# Altium integrated library Linear Technology Power Management System Supervisor, Monitor and Control.IntLib: 1611 symbols (part 58 of 100)
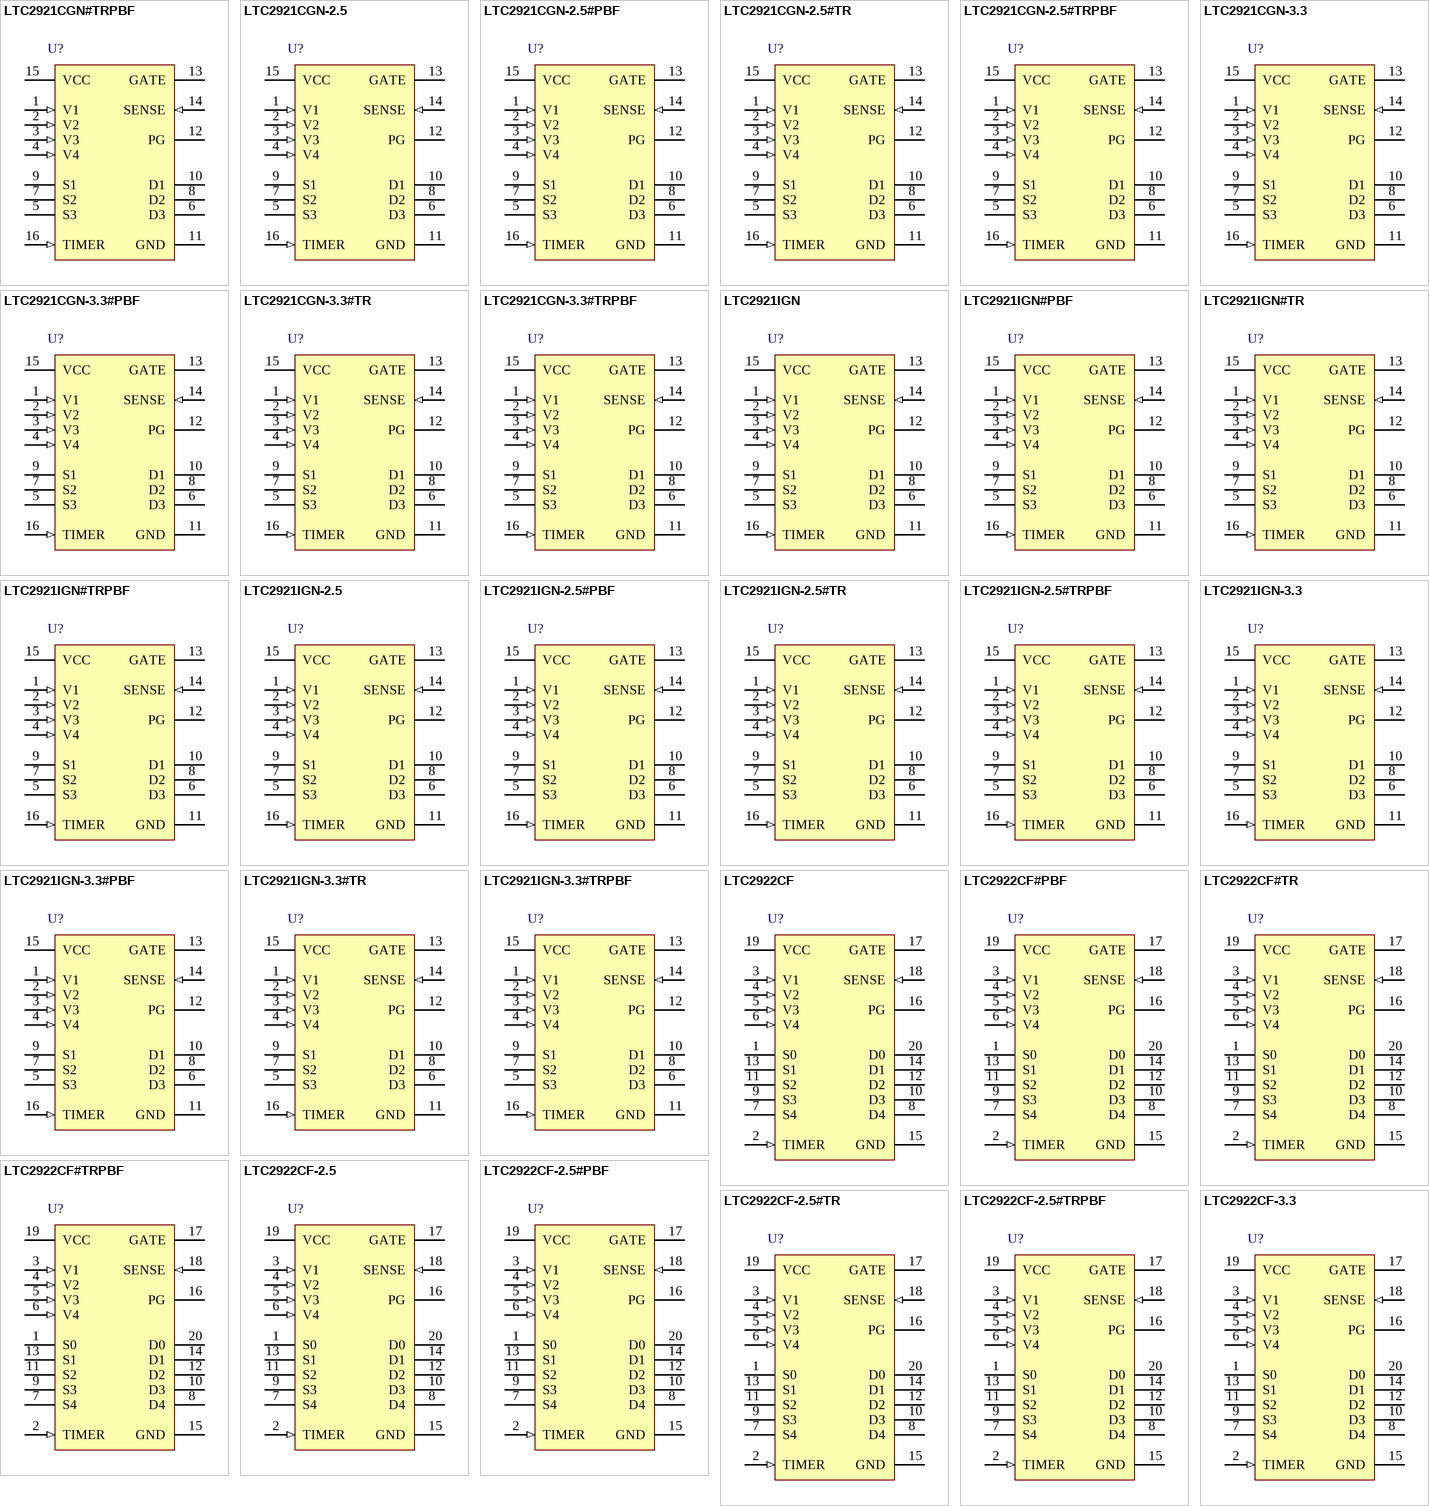
[diagram p102: symbols LTC2921CGN#TRPBF to LTC2922CF-3.3]

## LTC2921CGN#TRPBF
designator U?
Power Supply Tracker with Input Monitor, 16-pin SOP (GN-16), 0 to 70 degC, Pb-Free, Tape and Reel; Manufacturer: Linear Technology; PartNumber: LTC2921CGN#TRPBF; Number of Supplies(#): 5; DatasheetVersion: Rev. A; PackageVersion: Rev. B, 03/2012; PackageReference: GN-16; PackageDescription: 16-Pin Plastic SSOP, Body 4.9 x 3.9 mm, Pitch 0.635 mm; Supplier 1: Digi-Key; Supplier Part Number 1: LTC2921CGN#TRPBF-ND; Packing: Tape and Reel; RoHS: TRUE; Mounting Technology: Surface Mount; ComponentLink1Description: Manufacturer URL; ComponentLink1URL: http://www.linear.com/; ComponentLink2Description: Datasheet; ComponentLink2URL: http://cds.linear.com/docs/en/datasheet/29212fa.pdf; ComponentLink3Description: Package Specification; ComponentLink3URL: http://cds.linear.com/docs/en/packaging/05081641_B_GN16.pdf
footprint LT-GN-16_N (SOP, 16-Leads, Body 5x4mm, Pitch 0.635mm, IPC Medium Density)
footprint LT-GN-16_L (SOP, 16-Leads, Body 5x4mm, Pitch 0.635mm, IPC High Density)
footprint LT-GN-16_M (SOP, 16-Leads, Body 5x4mm, Pitch 0.635mm, IPC Low Density)
pins: 1 V1 (in) "Supply Monitor Inputs. All four inputs must lie above the monitor threshold level (0.5V) and below the monitor overvoltage level (0.7V) for a turnon sequence to commence or continue. When any monitor input falls outside (See Datasheet)", 2 V2 (in) "Supply Monitor Inputs. All four inputs must lie above the monitor threshold level (0.5V) and below the monitor overvoltage level (0.7V) for a turnon sequence to commence or continue. When any monitor input falls outside (See Datasheet)", 3 V3 (in) "Supply Monitor Inputs. All four inputs must lie above the monitor threshold level (0.5V) and below the monitor overvoltage level (0.7V) for a turnon sequence to commence or continue. When any monitor input falls outside (See Datasheet)", 4 V4 (in) "Supply Monitor Inputs. All four inputs must lie above the monitor threshold level (0.5V) and below the monitor overvoltage level (0.7V) for a turnon sequence to commence or continue. When any monitor input falls outside (See Datasheet)", 5 S3 "Remote Sense Switch 3. Tie to GND if unused.", 6 D3 "Remote Sense Switch 3. Tie to GND if unused.", 7 S2 "Remote Sense Switch 2. Tie to GND if unused.", 8 D2 "Remote Sense Switch 2. Tie to GND if unused.", 9 S1 "Remote Sense Switch 1. Tie to GND if unused.", 10 D1 "Remote Sense Switch 1. Tie to GND if unused.", 11 GND (power) "Circuit Ground.", 12 PG (oc) "Power Good Output. A 4uA current source from the internal charge pump rail (VPUMP) pulls PG up after the turn-on sequence is complete. The output is pulled to ground before turn-on is complete, when any monitor is out of (See Datasheet)", 13 GATE (oc) "Gate Drive for External N-Channel FETs. A 10uA current source from the internal charge pump rail (VPUMP) ramps the gates of the external Nchannel MOSFETs forcing all supplies to track on. The resistor and capacitor network (See Datasheet)", 14 SENSE (in) "Circuit Breaker Sense Input. An external resistor between VCC and SENSE sets the electronic circuit breaker trip current. The breaker trips when the voltage across the resistor exceeds 50mV for 1us. To disable the circuit (See Datasheet)", 15 VCC (power) "Supply Voltage. The voltage at VCC is monitored through an internal resistive divider in a manner similar to the V1-V4 inputs. An undervoltage lockout circuit disables the part until the voltage at VCC is greater than 2.2V. (See Datasheet)", 16 TIMER (in) "Timing Delay Input. Connect a capacitor between this pin and ground to set a 600ms/mF delay at two points in the monitoring sequence. This sets the delay after all monitors are good, before the start of GATE ramping, and the (See Datasheet)"

## LTC2921CGN-2.5
designator U?
Power Supply Tracker with Input Monitor, 16-pin SOP (GN-16), 0 to 70 degC; Manufacturer: Linear Technology; PartNumber: LTC2921CGN-2.5; Number of Supplies(#): 5; DatasheetVersion: Rev. A; PackageVersion: Rev. B, 03/2012; PackageReference: GN-16; PackageDescription: 16-Pin Plastic SSOP, Body 4.9 x 3.9 mm, Pitch 0.635 mm; Supplier 1: Digi-Key; Supplier Part Number 1: LTC2921CGN-2.5-ND; RoHS: FALSE; Mounting Technology: Surface Mount; ComponentLink1Description: Manufacturer URL; ComponentLink1URL: http://www.linear.com/; ComponentLink2Description: Datasheet; ComponentLink2URL: http://cds.linear.com/docs/en/datasheet/29212fa.pdf; ComponentLink3Description: Package Specification; ComponentLink3URL: http://cds.linear.com/docs/en/packaging/05081641_B_GN16.pdf
footprint LT-GN-16_N (SOP, 16-Leads, Body 5x4mm, Pitch 0.635mm, IPC Medium Density)
footprint LT-GN-16_L (SOP, 16-Leads, Body 5x4mm, Pitch 0.635mm, IPC High Density)
footprint LT-GN-16_M (SOP, 16-Leads, Body 5x4mm, Pitch 0.635mm, IPC Low Density)
pins: 1 V1 (in) "Supply Monitor Inputs. All four inputs must lie above the monitor threshold level (0.5V) and below the monitor overvoltage level (0.7V) for a turnon sequence to commence or continue. When any monitor input falls outside (See Datasheet)", 2 V2 (in) "Supply Monitor Inputs. All four inputs must lie above the monitor threshold level (0.5V) and below the monitor overvoltage level (0.7V) for a turnon sequence to commence or continue. When any monitor input falls outside (See Datasheet)", 3 V3 (in) "Supply Monitor Inputs. All four inputs must lie above the monitor threshold level (0.5V) and below the monitor overvoltage level (0.7V) for a turnon sequence to commence or continue. When any monitor input falls outside (See Datasheet)", 4 V4 (in) "Supply Monitor Inputs. All four inputs must lie above the monitor threshold level (0.5V) and below the monitor overvoltage level (0.7V) for a turnon sequence to commence or continue. When any monitor input falls outside (See Datasheet)", 5 S3 "Remote Sense Switch 3. Tie to GND if unused.", 6 D3 "Remote Sense Switch 3. Tie to GND if unused.", 7 S2 "Remote Sense Switch 2. Tie to GND if unused.", 8 D2 "Remote Sense Switch 2. Tie to GND if unused.", 9 S1 "Remote Sense Switch 1. Tie to GND if unused.", 10 D1 "Remote Sense Switch 1. Tie to GND if unused.", 11 GND (power) "Circuit Ground.", 12 PG (oc) "Power Good Output. A 4uA current source from the internal charge pump rail (VPUMP) pulls PG up after the turn-on sequence is complete. The output is pulled to ground before turn-on is complete, when any monitor is out of (See Datasheet)", 13 GATE (oc) "Gate Drive for External N-Channel FETs. A 10uA current source from the internal charge pump rail (VPUMP) ramps the gates of the external Nchannel MOSFETs forcing all supplies to track on. The resistor and capacitor network (See Datasheet)", 14 SENSE (in) "Circuit Breaker Sense Input. An external resistor between VCC and SENSE sets the electronic circuit breaker trip current. The breaker trips when the voltage across the resistor exceeds 50mV for 1us. To disable the circuit (See Datasheet)", 15 VCC (power) "Supply Voltage. The voltage at VCC is monitored through an internal resistive divider in a manner similar to the V1-V4 inputs. An undervoltage lockout circuit disables the part until the voltage at VCC is greater than 2.2V. (See Datasheet)", 16 TIMER (in) "Timing Delay Input. Connect a capacitor between this pin and ground to set a 600ms/mF delay at two points in the monitoring sequence. This sets the delay after all monitors are good, before the start of GATE ramping, and the (See Datasheet)"

## LTC2921CGN-2.5#PBF
designator U?
Power Supply Tracker with Input Monitor, 16-pin SOP (GN-16), 0 to 70 degC, Pb-Free; Manufacturer: Linear Technology; PartNumber: LTC2921CGN-2.5#PBF; Number of Supplies(#): 5; DatasheetVersion: Rev. A; PackageVersion: Rev. B, 03/2012; PackageReference: GN-16; PackageDescription: 16-Pin Plastic SSOP, Body 4.9 x 3.9 mm, Pitch 0.635 mm; Supplier 1: Digi-Key; Supplier Part Number 1: LTC2921CGN-2.5#PBF-ND; RoHS: TRUE; Mounting Technology: Surface Mount; ComponentLink1Description: Manufacturer URL; ComponentLink1URL: http://www.linear.com/; ComponentLink2Description: Datasheet; ComponentLink2URL: http://cds.linear.com/docs/en/datasheet/29212fa.pdf; ComponentLink3Description: Package Specification; ComponentLink3URL: http://cds.linear.com/docs/en/packaging/05081641_B_GN16.pdf
footprint LT-GN-16_N (SOP, 16-Leads, Body 5x4mm, Pitch 0.635mm, IPC Medium Density)
footprint LT-GN-16_L (SOP, 16-Leads, Body 5x4mm, Pitch 0.635mm, IPC High Density)
footprint LT-GN-16_M (SOP, 16-Leads, Body 5x4mm, Pitch 0.635mm, IPC Low Density)
pins: 1 V1 (in) "Supply Monitor Inputs. All four inputs must lie above the monitor threshold level (0.5V) and below the monitor overvoltage level (0.7V) for a turnon sequence to commence or continue. When any monitor input falls outside (See Datasheet)", 2 V2 (in) "Supply Monitor Inputs. All four inputs must lie above the monitor threshold level (0.5V) and below the monitor overvoltage level (0.7V) for a turnon sequence to commence or continue. When any monitor input falls outside (See Datasheet)", 3 V3 (in) "Supply Monitor Inputs. All four inputs must lie above the monitor threshold level (0.5V) and below the monitor overvoltage level (0.7V) for a turnon sequence to commence or continue. When any monitor input falls outside (See Datasheet)", 4 V4 (in) "Supply Monitor Inputs. All four inputs must lie above the monitor threshold level (0.5V) and below the monitor overvoltage level (0.7V) for a turnon sequence to commence or continue. When any monitor input falls outside (See Datasheet)", 5 S3 "Remote Sense Switch 3. Tie to GND if unused.", 6 D3 "Remote Sense Switch 3. Tie to GND if unused.", 7 S2 "Remote Sense Switch 2. Tie to GND if unused.", 8 D2 "Remote Sense Switch 2. Tie to GND if unused.", 9 S1 "Remote Sense Switch 1. Tie to GND if unused.", 10 D1 "Remote Sense Switch 1. Tie to GND if unused.", 11 GND (power) "Circuit Ground.", 12 PG (oc) "Power Good Output. A 4uA current source from the internal charge pump rail (VPUMP) pulls PG up after the turn-on sequence is complete. The output is pulled to ground before turn-on is complete, when any monitor is out of (See Datasheet)", 13 GATE (oc) "Gate Drive for External N-Channel FETs. A 10uA current source from the internal charge pump rail (VPUMP) ramps the gates of the external Nchannel MOSFETs forcing all supplies to track on. The resistor and capacitor network (See Datasheet)", 14 SENSE (in) "Circuit Breaker Sense Input. An external resistor between VCC and SENSE sets the electronic circuit breaker trip current. The breaker trips when the voltage across the resistor exceeds 50mV for 1us. To disable the circuit (See Datasheet)", 15 VCC (power) "Supply Voltage. The voltage at VCC is monitored through an internal resistive divider in a manner similar to the V1-V4 inputs. An undervoltage lockout circuit disables the part until the voltage at VCC is greater than 2.2V. (See Datasheet)", 16 TIMER (in) "Timing Delay Input. Connect a capacitor between this pin and ground to set a 600ms/mF delay at two points in the monitoring sequence. This sets the delay after all monitors are good, before the start of GATE ramping, and the (See Datasheet)"

## LTC2921CGN-2.5#TR
designator U?
Power Supply Tracker with Input Monitor, 16-pin SOP (GN-16), 0 to 70 degC, Tape and Reel; Manufacturer: Linear Technology; PartNumber: LTC2921CGN-2.5#TR; Number of Supplies(#): 5; DatasheetVersion: Rev. A; PackageVersion: Rev. B, 03/2012; PackageReference: GN-16; PackageDescription: 16-Pin Plastic SSOP, Body 4.9 x 3.9 mm, Pitch 0.635 mm; Supplier 1: Digi-Key; Supplier Part Number 1: LTC2921CGN-2.5#TR-ND; Packing: Tape and Reel; RoHS: FALSE; Mounting Technology: Surface Mount; ComponentLink1Description: Manufacturer URL; ComponentLink1URL: http://www.linear.com/; ComponentLink2Description: Datasheet; ComponentLink2URL: http://cds.linear.com/docs/en/datasheet/29212fa.pdf; ComponentLink3Description: Package Specification; ComponentLink3URL: http://cds.linear.com/docs/en/packaging/05081641_B_GN16.pdf
footprint LT-GN-16_N (SOP, 16-Leads, Body 5x4mm, Pitch 0.635mm, IPC Medium Density)
footprint LT-GN-16_L (SOP, 16-Leads, Body 5x4mm, Pitch 0.635mm, IPC High Density)
footprint LT-GN-16_M (SOP, 16-Leads, Body 5x4mm, Pitch 0.635mm, IPC Low Density)
pins: 1 V1 (in) "Supply Monitor Inputs. All four inputs must lie above the monitor threshold level (0.5V) and below the monitor overvoltage level (0.7V) for a turnon sequence to commence or continue. When any monitor input falls outside (See Datasheet)", 2 V2 (in) "Supply Monitor Inputs. All four inputs must lie above the monitor threshold level (0.5V) and below the monitor overvoltage level (0.7V) for a turnon sequence to commence or continue. When any monitor input falls outside (See Datasheet)", 3 V3 (in) "Supply Monitor Inputs. All four inputs must lie above the monitor threshold level (0.5V) and below the monitor overvoltage level (0.7V) for a turnon sequence to commence or continue. When any monitor input falls outside (See Datasheet)", 4 V4 (in) "Supply Monitor Inputs. All four inputs must lie above the monitor threshold level (0.5V) and below the monitor overvoltage level (0.7V) for a turnon sequence to commence or continue. When any monitor input falls outside (See Datasheet)", 5 S3 "Remote Sense Switch 3. Tie to GND if unused.", 6 D3 "Remote Sense Switch 3. Tie to GND if unused.", 7 S2 "Remote Sense Switch 2. Tie to GND if unused.", 8 D2 "Remote Sense Switch 2. Tie to GND if unused.", 9 S1 "Remote Sense Switch 1. Tie to GND if unused.", 10 D1 "Remote Sense Switch 1. Tie to GND if unused.", 11 GND (power) "Circuit Ground.", 12 PG (oc) "Power Good Output. A 4uA current source from the internal charge pump rail (VPUMP) pulls PG up after the turn-on sequence is complete. The output is pulled to ground before turn-on is complete, when any monitor is out of (See Datasheet)", 13 GATE (oc) "Gate Drive for External N-Channel FETs. A 10uA current source from the internal charge pump rail (VPUMP) ramps the gates of the external Nchannel MOSFETs forcing all supplies to track on. The resistor and capacitor network (See Datasheet)", 14 SENSE (in) "Circuit Breaker Sense Input. An external resistor between VCC and SENSE sets the electronic circuit breaker trip current. The breaker trips when the voltage across the resistor exceeds 50mV for 1us. To disable the circuit (See Datasheet)", 15 VCC (power) "Supply Voltage. The voltage at VCC is monitored through an internal resistive divider in a manner similar to the V1-V4 inputs. An undervoltage lockout circuit disables the part until the voltage at VCC is greater than 2.2V. (See Datasheet)", 16 TIMER (in) "Timing Delay Input. Connect a capacitor between this pin and ground to set a 600ms/mF delay at two points in the monitoring sequence. This sets the delay after all monitors are good, before the start of GATE ramping, and the (See Datasheet)"

## LTC2921CGN-2.5#TRPBF
designator U?
Power Supply Tracker with Input Monitor, 16-pin SOP (GN-16), 0 to 70 degC, Pb-Free, Tape and Reel; Manufacturer: Linear Technology; PartNumber: LTC2921CGN-2.5#TRPBF; Number of Supplies(#): 5; DatasheetVersion: Rev. A; PackageVersion: Rev. B, 03/2012; PackageReference: GN-16; PackageDescription: 16-Pin Plastic SSOP, Body 4.9 x 3.9 mm, Pitch 0.635 mm; Supplier 1: Digi-Key; Supplier Part Number 1: LTC2921CGN-2.5#TRPBF-ND; Packing: Tape and Reel; RoHS: TRUE; Mounting Technology: Surface Mount; ComponentLink1Description: Manufacturer URL; ComponentLink1URL: http://www.linear.com/; ComponentLink2Description: Datasheet; ComponentLink2URL: http://cds.linear.com/docs/en/datasheet/29212fa.pdf; ComponentLink3Description: Package Specification; ComponentLink3URL: http://cds.linear.com/docs/en/packaging/05081641_B_GN16.pdf
footprint LT-GN-16_N (SOP, 16-Leads, Body 5x4mm, Pitch 0.635mm, IPC Medium Density)
footprint LT-GN-16_L (SOP, 16-Leads, Body 5x4mm, Pitch 0.635mm, IPC High Density)
footprint LT-GN-16_M (SOP, 16-Leads, Body 5x4mm, Pitch 0.635mm, IPC Low Density)
pins: 1 V1 (in) "Supply Monitor Inputs. All four inputs must lie above the monitor threshold level (0.5V) and below the monitor overvoltage level (0.7V) for a turnon sequence to commence or continue. When any monitor input falls outside (See Datasheet)", 2 V2 (in) "Supply Monitor Inputs. All four inputs must lie above the monitor threshold level (0.5V) and below the monitor overvoltage level (0.7V) for a turnon sequence to commence or continue. When any monitor input falls outside (See Datasheet)", 3 V3 (in) "Supply Monitor Inputs. All four inputs must lie above the monitor threshold level (0.5V) and below the monitor overvoltage level (0.7V) for a turnon sequence to commence or continue. When any monitor input falls outside (See Datasheet)", 4 V4 (in) "Supply Monitor Inputs. All four inputs must lie above the monitor threshold level (0.5V) and below the monitor overvoltage level (0.7V) for a turnon sequence to commence or continue. When any monitor input falls outside (See Datasheet)", 5 S3 "Remote Sense Switch 3. Tie to GND if unused.", 6 D3 "Remote Sense Switch 3. Tie to GND if unused.", 7 S2 "Remote Sense Switch 2. Tie to GND if unused.", 8 D2 "Remote Sense Switch 2. Tie to GND if unused.", 9 S1 "Remote Sense Switch 1. Tie to GND if unused.", 10 D1 "Remote Sense Switch 1. Tie to GND if unused.", 11 GND (power) "Circuit Ground.", 12 PG (oc) "Power Good Output. A 4uA current source from the internal charge pump rail (VPUMP) pulls PG up after the turn-on sequence is complete. The output is pulled to ground before turn-on is complete, when any monitor is out of (See Datasheet)", 13 GATE (oc) "Gate Drive for External N-Channel FETs. A 10uA current source from the internal charge pump rail (VPUMP) ramps the gates of the external Nchannel MOSFETs forcing all supplies to track on. The resistor and capacitor network (See Datasheet)", 14 SENSE (in) "Circuit Breaker Sense Input. An external resistor between VCC and SENSE sets the electronic circuit breaker trip current. The breaker trips when the voltage across the resistor exceeds 50mV for 1us. To disable the circuit (See Datasheet)", 15 VCC (power) "Supply Voltage. The voltage at VCC is monitored through an internal resistive divider in a manner similar to the V1-V4 inputs. An undervoltage lockout circuit disables the part until the voltage at VCC is greater than 2.2V. (See Datasheet)", 16 TIMER (in) "Timing Delay Input. Connect a capacitor between this pin and ground to set a 600ms/mF delay at two points in the monitoring sequence. This sets the delay after all monitors are good, before the start of GATE ramping, and the (See Datasheet)"

## LTC2921CGN-3.3
designator U?
Power Supply Tracker with Input Monitor, 16-pin SOP (GN-16), 0 to 70 degC; Manufacturer: Linear Technology; PartNumber: LTC2921CGN-3.3; Number of Supplies(#): 5; DatasheetVersion: Rev. A; PackageVersion: Rev. B, 03/2012; PackageReference: GN-16; PackageDescription: 16-Pin Plastic SSOP, Body 4.9 x 3.9 mm, Pitch 0.635 mm; Supplier 1: Digi-Key; Supplier Part Number 1: LTC2921CGN-3.3-ND; RoHS: FALSE; Mounting Technology: Surface Mount; ComponentLink1Description: Manufacturer URL; ComponentLink1URL: http://www.linear.com/; ComponentLink2Description: Datasheet; ComponentLink2URL: http://cds.linear.com/docs/en/datasheet/29212fa.pdf; ComponentLink3Description: Package Specification; ComponentLink3URL: http://cds.linear.com/docs/en/packaging/05081641_B_GN16.pdf
footprint LT-GN-16_N (SOP, 16-Leads, Body 5x4mm, Pitch 0.635mm, IPC Medium Density)
footprint LT-GN-16_L (SOP, 16-Leads, Body 5x4mm, Pitch 0.635mm, IPC High Density)
footprint LT-GN-16_M (SOP, 16-Leads, Body 5x4mm, Pitch 0.635mm, IPC Low Density)
pins: 1 V1 (in) "Supply Monitor Inputs. All four inputs must lie above the monitor threshold level (0.5V) and below the monitor overvoltage level (0.7V) for a turnon sequence to commence or continue. When any monitor input falls outside (See Datasheet)", 2 V2 (in) "Supply Monitor Inputs. All four inputs must lie above the monitor threshold level (0.5V) and below the monitor overvoltage level (0.7V) for a turnon sequence to commence or continue. When any monitor input falls outside (See Datasheet)", 3 V3 (in) "Supply Monitor Inputs. All four inputs must lie above the monitor threshold level (0.5V) and below the monitor overvoltage level (0.7V) for a turnon sequence to commence or continue. When any monitor input falls outside (See Datasheet)", 4 V4 (in) "Supply Monitor Inputs. All four inputs must lie above the monitor threshold level (0.5V) and below the monitor overvoltage level (0.7V) for a turnon sequence to commence or continue. When any monitor input falls outside (See Datasheet)", 5 S3 "Remote Sense Switch 3. Tie to GND if unused.", 6 D3 "Remote Sense Switch 3. Tie to GND if unused.", 7 S2 "Remote Sense Switch 2. Tie to GND if unused.", 8 D2 "Remote Sense Switch 2. Tie to GND if unused.", 9 S1 "Remote Sense Switch 1. Tie to GND if unused.", 10 D1 "Remote Sense Switch 1. Tie to GND if unused.", 11 GND (power) "Circuit Ground.", 12 PG (oc) "Power Good Output. A 4uA current source from the internal charge pump rail (VPUMP) pulls PG up after the turn-on sequence is complete. The output is pulled to ground before turn-on is complete, when any monitor is out of (See Datasheet)", 13 GATE (oc) "Gate Drive for External N-Channel FETs. A 10uA current source from the internal charge pump rail (VPUMP) ramps the gates of the external Nchannel MOSFETs forcing all supplies to track on. The resistor and capacitor network (See Datasheet)", 14 SENSE (in) "Circuit Breaker Sense Input. An external resistor between VCC and SENSE sets the electronic circuit breaker trip current. The breaker trips when the voltage across the resistor exceeds 50mV for 1us. To disable the circuit (See Datasheet)", 15 VCC (power) "Supply Voltage. The voltage at VCC is monitored through an internal resistive divider in a manner similar to the V1-V4 inputs. An undervoltage lockout circuit disables the part until the voltage at VCC is greater than 2.2V. (See Datasheet)", 16 TIMER (in) "Timing Delay Input. Connect a capacitor between this pin and ground to set a 600ms/mF delay at two points in the monitoring sequence. This sets the delay after all monitors are good, before the start of GATE ramping, and the (See Datasheet)"

## LTC2921CGN-3.3#PBF
designator U?
Power Supply Tracker with Input Monitor, 16-pin SOP (GN-16), 0 to 70 degC, Pb-Free; Manufacturer: Linear Technology; PartNumber: LTC2921CGN-3.3#PBF; Number of Supplies(#): 5; DatasheetVersion: Rev. A; PackageVersion: Rev. B, 03/2012; PackageReference: GN-16; PackageDescription: 16-Pin Plastic SSOP, Body 4.9 x 3.9 mm, Pitch 0.635 mm; Supplier 1: Digi-Key; Supplier Part Number 1: LTC2921CGN-3.3#PBF-ND; RoHS: TRUE; Mounting Technology: Surface Mount; ComponentLink1Description: Manufacturer URL; ComponentLink1URL: http://www.linear.com/; ComponentLink2Description: Datasheet; ComponentLink2URL: http://cds.linear.com/docs/en/datasheet/29212fa.pdf; ComponentLink3Description: Package Specification; ComponentLink3URL: http://cds.linear.com/docs/en/packaging/05081641_B_GN16.pdf
footprint LT-GN-16_N (SOP, 16-Leads, Body 5x4mm, Pitch 0.635mm, IPC Medium Density)
footprint LT-GN-16_L (SOP, 16-Leads, Body 5x4mm, Pitch 0.635mm, IPC High Density)
footprint LT-GN-16_M (SOP, 16-Leads, Body 5x4mm, Pitch 0.635mm, IPC Low Density)
pins: 1 V1 (in) "Supply Monitor Inputs. All four inputs must lie above the monitor threshold level (0.5V) and below the monitor overvoltage level (0.7V) for a turnon sequence to commence or continue. When any monitor input falls outside (See Datasheet)", 2 V2 (in) "Supply Monitor Inputs. All four inputs must lie above the monitor threshold level (0.5V) and below the monitor overvoltage level (0.7V) for a turnon sequence to commence or continue. When any monitor input falls outside (See Datasheet)", 3 V3 (in) "Supply Monitor Inputs. All four inputs must lie above the monitor threshold level (0.5V) and below the monitor overvoltage level (0.7V) for a turnon sequence to commence or continue. When any monitor input falls outside (See Datasheet)", 4 V4 (in) "Supply Monitor Inputs. All four inputs must lie above the monitor threshold level (0.5V) and below the monitor overvoltage level (0.7V) for a turnon sequence to commence or continue. When any monitor input falls outside (See Datasheet)", 5 S3 "Remote Sense Switch 3. Tie to GND if unused.", 6 D3 "Remote Sense Switch 3. Tie to GND if unused.", 7 S2 "Remote Sense Switch 2. Tie to GND if unused.", 8 D2 "Remote Sense Switch 2. Tie to GND if unused.", 9 S1 "Remote Sense Switch 1. Tie to GND if unused.", 10 D1 "Remote Sense Switch 1. Tie to GND if unused.", 11 GND (power) "Circuit Ground.", 12 PG (oc) "Power Good Output. A 4uA current source from the internal charge pump rail (VPUMP) pulls PG up after the turn-on sequence is complete. The output is pulled to ground before turn-on is complete, when any monitor is out of (See Datasheet)", 13 GATE (oc) "Gate Drive for External N-Channel FETs. A 10uA current source from the internal charge pump rail (VPUMP) ramps the gates of the external Nchannel MOSFETs forcing all supplies to track on. The resistor and capacitor network (See Datasheet)", 14 SENSE (in) "Circuit Breaker Sense Input. An external resistor between VCC and SENSE sets the electronic circuit breaker trip current. The breaker trips when the voltage across the resistor exceeds 50mV for 1us. To disable the circuit (See Datasheet)", 15 VCC (power) "Supply Voltage. The voltage at VCC is monitored through an internal resistive divider in a manner similar to the V1-V4 inputs. An undervoltage lockout circuit disables the part until the voltage at VCC is greater than 2.2V. (See Datasheet)", 16 TIMER (in) "Timing Delay Input. Connect a capacitor between this pin and ground to set a 600ms/mF delay at two points in the monitoring sequence. This sets the delay after all monitors are good, before the start of GATE ramping, and the (See Datasheet)"

## LTC2921CGN-3.3#TR
designator U?
Power Supply Tracker with Input Monitor, 16-pin SOP (GN-16), 0 to 70 degC, Tape and Reel; Manufacturer: Linear Technology; PartNumber: LTC2921CGN-3.3#TR; Number of Supplies(#): 5; DatasheetVersion: Rev. A; PackageVersion: Rev. B, 03/2012; PackageReference: GN-16; PackageDescription: 16-Pin Plastic SSOP, Body 4.9 x 3.9 mm, Pitch 0.635 mm; Supplier 1: Digi-Key; Supplier Part Number 1: LTC2921CGN-3.3#TR-ND; Packing: Tape and Reel; RoHS: FALSE; Mounting Technology: Surface Mount; ComponentLink1Description: Manufacturer URL; ComponentLink1URL: http://www.linear.com/; ComponentLink2Description: Datasheet; ComponentLink2URL: http://cds.linear.com/docs/en/datasheet/29212fa.pdf; ComponentLink3Description: Package Specification; ComponentLink3URL: http://cds.linear.com/docs/en/packaging/05081641_B_GN16.pdf
footprint LT-GN-16_N (SOP, 16-Leads, Body 5x4mm, Pitch 0.635mm, IPC Medium Density)
footprint LT-GN-16_L (SOP, 16-Leads, Body 5x4mm, Pitch 0.635mm, IPC High Density)
footprint LT-GN-16_M (SOP, 16-Leads, Body 5x4mm, Pitch 0.635mm, IPC Low Density)
pins: 1 V1 (in) "Supply Monitor Inputs. All four inputs must lie above the monitor threshold level (0.5V) and below the monitor overvoltage level (0.7V) for a turnon sequence to commence or continue. When any monitor input falls outside (See Datasheet)", 2 V2 (in) "Supply Monitor Inputs. All four inputs must lie above the monitor threshold level (0.5V) and below the monitor overvoltage level (0.7V) for a turnon sequence to commence or continue. When any monitor input falls outside (See Datasheet)", 3 V3 (in) "Supply Monitor Inputs. All four inputs must lie above the monitor threshold level (0.5V) and below the monitor overvoltage level (0.7V) for a turnon sequence to commence or continue. When any monitor input falls outside (See Datasheet)", 4 V4 (in) "Supply Monitor Inputs. All four inputs must lie above the monitor threshold level (0.5V) and below the monitor overvoltage level (0.7V) for a turnon sequence to commence or continue. When any monitor input falls outside (See Datasheet)", 5 S3 "Remote Sense Switch 3. Tie to GND if unused.", 6 D3 "Remote Sense Switch 3. Tie to GND if unused.", 7 S2 "Remote Sense Switch 2. Tie to GND if unused.", 8 D2 "Remote Sense Switch 2. Tie to GND if unused.", 9 S1 "Remote Sense Switch 1. Tie to GND if unused.", 10 D1 "Remote Sense Switch 1. Tie to GND if unused.", 11 GND (power) "Circuit Ground.", 12 PG (oc) "Power Good Output. A 4uA current source from the internal charge pump rail (VPUMP) pulls PG up after the turn-on sequence is complete. The output is pulled to ground before turn-on is complete, when any monitor is out of (See Datasheet)", 13 GATE (oc) "Gate Drive for External N-Channel FETs. A 10uA current source from the internal charge pump rail (VPUMP) ramps the gates of the external Nchannel MOSFETs forcing all supplies to track on. The resistor and capacitor network (See Datasheet)", 14 SENSE (in) "Circuit Breaker Sense Input. An external resistor between VCC and SENSE sets the electronic circuit breaker trip current. The breaker trips when the voltage across the resistor exceeds 50mV for 1us. To disable the circuit (See Datasheet)", 15 VCC (power) "Supply Voltage. The voltage at VCC is monitored through an internal resistive divider in a manner similar to the V1-V4 inputs. An undervoltage lockout circuit disables the part until the voltage at VCC is greater than 2.2V. (See Datasheet)", 16 TIMER (in) "Timing Delay Input. Connect a capacitor between this pin and ground to set a 600ms/mF delay at two points in the monitoring sequence. This sets the delay after all monitors are good, before the start of GATE ramping, and the (See Datasheet)"

## LTC2921CGN-3.3#TRPBF
designator U?
Power Supply Tracker with Input Monitor, 16-pin SOP (GN-16), 0 to 70 degC, Pb-Free, Tape and Reel; Manufacturer: Linear Technology; PartNumber: LTC2921CGN-3.3#TRPBF; Number of Supplies(#): 5; DatasheetVersion: Rev. A; PackageVersion: Rev. B, 03/2012; PackageReference: GN-16; PackageDescription: 16-Pin Plastic SSOP, Body 4.9 x 3.9 mm, Pitch 0.635 mm; Supplier 1: Digi-Key; Supplier Part Number 1: LTC2921CGN-3.3#TRPBF-ND; Supplier 2: Newark; Supplier Part Number 2: 56M7041; Packing: Tape and Reel; RoHS: TRUE; Mounting Technology: Surface Mount; ComponentLink1Description: Manufacturer URL; ComponentLink1URL: http://www.linear.com/; ComponentLink2Description: Datasheet; ComponentLink2URL: http://cds.linear.com/docs/en/datasheet/29212fa.pdf; ComponentLink3Description: Package Specification; ComponentLink3URL: http://cds.linear.com/docs/en/packaging/05081641_B_GN16.pdf
footprint LT-GN-16_N (SOP, 16-Leads, Body 5x4mm, Pitch 0.635mm, IPC Medium Density)
footprint LT-GN-16_L (SOP, 16-Leads, Body 5x4mm, Pitch 0.635mm, IPC High Density)
footprint LT-GN-16_M (SOP, 16-Leads, Body 5x4mm, Pitch 0.635mm, IPC Low Density)
pins: 1 V1 (in) "Supply Monitor Inputs. All four inputs must lie above the monitor threshold level (0.5V) and below the monitor overvoltage level (0.7V) for a turnon sequence to commence or continue. When any monitor input falls outside (See Datasheet)", 2 V2 (in) "Supply Monitor Inputs. All four inputs must lie above the monitor threshold level (0.5V) and below the monitor overvoltage level (0.7V) for a turnon sequence to commence or continue. When any monitor input falls outside (See Datasheet)", 3 V3 (in) "Supply Monitor Inputs. All four inputs must lie above the monitor threshold level (0.5V) and below the monitor overvoltage level (0.7V) for a turnon sequence to commence or continue. When any monitor input falls outside (See Datasheet)", 4 V4 (in) "Supply Monitor Inputs. All four inputs must lie above the monitor threshold level (0.5V) and below the monitor overvoltage level (0.7V) for a turnon sequence to commence or continue. When any monitor input falls outside (See Datasheet)", 5 S3 "Remote Sense Switch 3. Tie to GND if unused.", 6 D3 "Remote Sense Switch 3. Tie to GND if unused.", 7 S2 "Remote Sense Switch 2. Tie to GND if unused.", 8 D2 "Remote Sense Switch 2. Tie to GND if unused.", 9 S1 "Remote Sense Switch 1. Tie to GND if unused.", 10 D1 "Remote Sense Switch 1. Tie to GND if unused.", 11 GND (power) "Circuit Ground.", 12 PG (oc) "Power Good Output. A 4uA current source from the internal charge pump rail (VPUMP) pulls PG up after the turn-on sequence is complete. The output is pulled to ground before turn-on is complete, when any monitor is out of (See Datasheet)", 13 GATE (oc) "Gate Drive for External N-Channel FETs. A 10uA current source from the internal charge pump rail (VPUMP) ramps the gates of the external Nchannel MOSFETs forcing all supplies to track on. The resistor and capacitor network (See Datasheet)", 14 SENSE (in) "Circuit Breaker Sense Input. An external resistor between VCC and SENSE sets the electronic circuit breaker trip current. The breaker trips when the voltage across the resistor exceeds 50mV for 1us. To disable the circuit (See Datasheet)", 15 VCC (power) "Supply Voltage. The voltage at VCC is monitored through an internal resistive divider in a manner similar to the V1-V4 inputs. An undervoltage lockout circuit disables the part until the voltage at VCC is greater than 2.2V. (See Datasheet)", 16 TIMER (in) "Timing Delay Input. Connect a capacitor between this pin and ground to set a 600ms/mF delay at two points in the monitoring sequence. This sets the delay after all monitors are good, before the start of GATE ramping, and the (See Datasheet)"

## LTC2921IGN
designator U?
Power Supply Tracker with Input Monitor, 16-pin SOP (GN-16), -40 to 85 degC; Manufacturer: Linear Technology; PartNumber: LTC2921IGN; Number of Supplies(#): 5; DatasheetVersion: Rev. A; PackageVersion: Rev. B, 03/2012; PackageReference: GN-16; PackageDescription: 16-Pin Plastic SSOP, Body 4.9 x 3.9 mm, Pitch 0.635 mm; Supplier 1: Digi-Key; Supplier Part Number 1: LTC2921IGN-ND; RoHS: FALSE; Mounting Technology: Surface Mount; ComponentLink1Description: Manufacturer URL; ComponentLink1URL: http://www.linear.com/; ComponentLink2Description: Datasheet; ComponentLink2URL: http://cds.linear.com/docs/en/datasheet/29212fa.pdf; ComponentLink3Description: Package Specification; ComponentLink3URL: http://cds.linear.com/docs/en/packaging/05081641_B_GN16.pdf
footprint LT-GN-16_N (SOP, 16-Leads, Body 5x4mm, Pitch 0.635mm, IPC Medium Density)
footprint LT-GN-16_L (SOP, 16-Leads, Body 5x4mm, Pitch 0.635mm, IPC High Density)
footprint LT-GN-16_M (SOP, 16-Leads, Body 5x4mm, Pitch 0.635mm, IPC Low Density)
pins: 1 V1 (in) "Supply Monitor Inputs. All four inputs must lie above the monitor threshold level (0.5V) and below the monitor overvoltage level (0.7V) for a turnon sequence to commence or continue. When any monitor input falls outside (See Datasheet)", 2 V2 (in) "Supply Monitor Inputs. All four inputs must lie above the monitor threshold level (0.5V) and below the monitor overvoltage level (0.7V) for a turnon sequence to commence or continue. When any monitor input falls outside (See Datasheet)", 3 V3 (in) "Supply Monitor Inputs. All four inputs must lie above the monitor threshold level (0.5V) and below the monitor overvoltage level (0.7V) for a turnon sequence to commence or continue. When any monitor input falls outside (See Datasheet)", 4 V4 (in) "Supply Monitor Inputs. All four inputs must lie above the monitor threshold level (0.5V) and below the monitor overvoltage level (0.7V) for a turnon sequence to commence or continue. When any monitor input falls outside (See Datasheet)", 5 S3 "Remote Sense Switch 3. Tie to GND if unused.", 6 D3 "Remote Sense Switch 3. Tie to GND if unused.", 7 S2 "Remote Sense Switch 2. Tie to GND if unused.", 8 D2 "Remote Sense Switch 2. Tie to GND if unused.", 9 S1 "Remote Sense Switch 1. Tie to GND if unused.", 10 D1 "Remote Sense Switch 1. Tie to GND if unused.", 11 GND (power) "Circuit Ground.", 12 PG (oc) "Power Good Output. A 4uA current source from the internal charge pump rail (VPUMP) pulls PG up after the turn-on sequence is complete. The output is pulled to ground before turn-on is complete, when any monitor is out of (See Datasheet)", 13 GATE (oc) "Gate Drive for External N-Channel FETs. A 10uA current source from the internal charge pump rail (VPUMP) ramps the gates of the external Nchannel MOSFETs forcing all supplies to track on. The resistor and capacitor network (See Datasheet)", 14 SENSE (in) "Circuit Breaker Sense Input. An external resistor between VCC and SENSE sets the electronic circuit breaker trip current. The breaker trips when the voltage across the resistor exceeds 50mV for 1us. To disable the circuit (See Datasheet)", 15 VCC (power) "Supply Voltage. The voltage at VCC is monitored through an internal resistive divider in a manner similar to the V1-V4 inputs. An undervoltage lockout circuit disables the part until the voltage at VCC is greater than 2.2V. (See Datasheet)", 16 TIMER (in) "Timing Delay Input. Connect a capacitor between this pin and ground to set a 600ms/mF delay at two points in the monitoring sequence. This sets the delay after all monitors are good, before the start of GATE ramping, and the (See Datasheet)"

## LTC2921IGN#PBF
designator U?
Power Supply Tracker with Input Monitor, 16-pin SOP (GN-16), -40 to 85 degC, Pb-Free; Manufacturer: Linear Technology; PartNumber: LTC2921IGN#PBF; Number of Supplies(#): 5; DatasheetVersion: Rev. A; PackageVersion: Rev. B, 03/2012; PackageReference: GN-16; PackageDescription: 16-Pin Plastic SSOP, Body 4.9 x 3.9 mm, Pitch 0.635 mm; Supplier 1: Digi-Key; Supplier Part Number 1: LTC2921IGN#PBF-ND; Supplier 2: Newark; Supplier Part Number 2: 56M7054; RoHS: TRUE; Mounting Technology: Surface Mount; ComponentLink1Description: Manufacturer URL; ComponentLink1URL: http://www.linear.com/; ComponentLink2Description: Datasheet; ComponentLink2URL: http://cds.linear.com/docs/en/datasheet/29212fa.pdf; ComponentLink3Description: Package Specification; ComponentLink3URL: http://cds.linear.com/docs/en/packaging/05081641_B_GN16.pdf
footprint LT-GN-16_N (SOP, 16-Leads, Body 5x4mm, Pitch 0.635mm, IPC Medium Density)
footprint LT-GN-16_L (SOP, 16-Leads, Body 5x4mm, Pitch 0.635mm, IPC High Density)
footprint LT-GN-16_M (SOP, 16-Leads, Body 5x4mm, Pitch 0.635mm, IPC Low Density)
pins: 1 V1 (in) "Supply Monitor Inputs. All four inputs must lie above the monitor threshold level (0.5V) and below the monitor overvoltage level (0.7V) for a turnon sequence to commence or continue. When any monitor input falls outside (See Datasheet)", 2 V2 (in) "Supply Monitor Inputs. All four inputs must lie above the monitor threshold level (0.5V) and below the monitor overvoltage level (0.7V) for a turnon sequence to commence or continue. When any monitor input falls outside (See Datasheet)", 3 V3 (in) "Supply Monitor Inputs. All four inputs must lie above the monitor threshold level (0.5V) and below the monitor overvoltage level (0.7V) for a turnon sequence to commence or continue. When any monitor input falls outside (See Datasheet)", 4 V4 (in) "Supply Monitor Inputs. All four inputs must lie above the monitor threshold level (0.5V) and below the monitor overvoltage level (0.7V) for a turnon sequence to commence or continue. When any monitor input falls outside (See Datasheet)", 5 S3 "Remote Sense Switch 3. Tie to GND if unused.", 6 D3 "Remote Sense Switch 3. Tie to GND if unused.", 7 S2 "Remote Sense Switch 2. Tie to GND if unused.", 8 D2 "Remote Sense Switch 2. Tie to GND if unused.", 9 S1 "Remote Sense Switch 1. Tie to GND if unused.", 10 D1 "Remote Sense Switch 1. Tie to GND if unused.", 11 GND (power) "Circuit Ground.", 12 PG (oc) "Power Good Output. A 4uA current source from the internal charge pump rail (VPUMP) pulls PG up after the turn-on sequence is complete. The output is pulled to ground before turn-on is complete, when any monitor is out of (See Datasheet)", 13 GATE (oc) "Gate Drive for External N-Channel FETs. A 10uA current source from the internal charge pump rail (VPUMP) ramps the gates of the external Nchannel MOSFETs forcing all supplies to track on. The resistor and capacitor network (See Datasheet)", 14 SENSE (in) "Circuit Breaker Sense Input. An external resistor between VCC and SENSE sets the electronic circuit breaker trip current. The breaker trips when the voltage across the resistor exceeds 50mV for 1us. To disable the circuit (See Datasheet)", 15 VCC (power) "Supply Voltage. The voltage at VCC is monitored through an internal resistive divider in a manner similar to the V1-V4 inputs. An undervoltage lockout circuit disables the part until the voltage at VCC is greater than 2.2V. (See Datasheet)", 16 TIMER (in) "Timing Delay Input. Connect a capacitor between this pin and ground to set a 600ms/mF delay at two points in the monitoring sequence. This sets the delay after all monitors are good, before the start of GATE ramping, and the (See Datasheet)"

## LTC2921IGN#TR
designator U?
Power Supply Tracker with Input Monitor, 16-pin SOP (GN-16), -40 to 85 degC, Tape and Reel; Manufacturer: Linear Technology; PartNumber: LTC2921IGN#TR; Number of Supplies(#): 5; DatasheetVersion: Rev. A; PackageVersion: Rev. B, 03/2012; PackageReference: GN-16; PackageDescription: 16-Pin Plastic SSOP, Body 4.9 x 3.9 mm, Pitch 0.635 mm; Supplier 1: Digi-Key; Supplier Part Number 1: LTC2921IGN#TR-ND; Packing: Tape and Reel; RoHS: FALSE; Mounting Technology: Surface Mount; ComponentLink1Description: Manufacturer URL; ComponentLink1URL: http://www.linear.com/; ComponentLink2Description: Datasheet; ComponentLink2URL: http://cds.linear.com/docs/en/datasheet/29212fa.pdf; ComponentLink3Description: Package Specification; ComponentLink3URL: http://cds.linear.com/docs/en/packaging/05081641_B_GN16.pdf
footprint LT-GN-16_N (SOP, 16-Leads, Body 5x4mm, Pitch 0.635mm, IPC Medium Density)
footprint LT-GN-16_L (SOP, 16-Leads, Body 5x4mm, Pitch 0.635mm, IPC High Density)
footprint LT-GN-16_M (SOP, 16-Leads, Body 5x4mm, Pitch 0.635mm, IPC Low Density)
pins: 1 V1 (in) "Supply Monitor Inputs. All four inputs must lie above the monitor threshold level (0.5V) and below the monitor overvoltage level (0.7V) for a turnon sequence to commence or continue. When any monitor input falls outside (See Datasheet)", 2 V2 (in) "Supply Monitor Inputs. All four inputs must lie above the monitor threshold level (0.5V) and below the monitor overvoltage level (0.7V) for a turnon sequence to commence or continue. When any monitor input falls outside (See Datasheet)", 3 V3 (in) "Supply Monitor Inputs. All four inputs must lie above the monitor threshold level (0.5V) and below the monitor overvoltage level (0.7V) for a turnon sequence to commence or continue. When any monitor input falls outside (See Datasheet)", 4 V4 (in) "Supply Monitor Inputs. All four inputs must lie above the monitor threshold level (0.5V) and below the monitor overvoltage level (0.7V) for a turnon sequence to commence or continue. When any monitor input falls outside (See Datasheet)", 5 S3 "Remote Sense Switch 3. Tie to GND if unused.", 6 D3 "Remote Sense Switch 3. Tie to GND if unused.", 7 S2 "Remote Sense Switch 2. Tie to GND if unused.", 8 D2 "Remote Sense Switch 2. Tie to GND if unused.", 9 S1 "Remote Sense Switch 1. Tie to GND if unused.", 10 D1 "Remote Sense Switch 1. Tie to GND if unused.", 11 GND (power) "Circuit Ground.", 12 PG (oc) "Power Good Output. A 4uA current source from the internal charge pump rail (VPUMP) pulls PG up after the turn-on sequence is complete. The output is pulled to ground before turn-on is complete, when any monitor is out of (See Datasheet)", 13 GATE (oc) "Gate Drive for External N-Channel FETs. A 10uA current source from the internal charge pump rail (VPUMP) ramps the gates of the external Nchannel MOSFETs forcing all supplies to track on. The resistor and capacitor network (See Datasheet)", 14 SENSE (in) "Circuit Breaker Sense Input. An external resistor between VCC and SENSE sets the electronic circuit breaker trip current. The breaker trips when the voltage across the resistor exceeds 50mV for 1us. To disable the circuit (See Datasheet)", 15 VCC (power) "Supply Voltage. The voltage at VCC is monitored through an internal resistive divider in a manner similar to the V1-V4 inputs. An undervoltage lockout circuit disables the part until the voltage at VCC is greater than 2.2V. (See Datasheet)", 16 TIMER (in) "Timing Delay Input. Connect a capacitor between this pin and ground to set a 600ms/mF delay at two points in the monitoring sequence. This sets the delay after all monitors are good, before the start of GATE ramping, and the (See Datasheet)"

## LTC2921IGN#TRPBF
designator U?
Power Supply Tracker with Input Monitor, 16-pin SOP (GN-16), -40 to 85 degC, Pb-Free, Tape and Reel; Manufacturer: Linear Technology; PartNumber: LTC2921IGN#TRPBF; Number of Supplies(#): 5; DatasheetVersion: Rev. A; PackageVersion: Rev. B, 03/2012; PackageReference: GN-16; PackageDescription: 16-Pin Plastic SSOP, Body 4.9 x 3.9 mm, Pitch 0.635 mm; Supplier 1: Digi-Key; Supplier Part Number 1: LTC2921IGN#TRPBF-ND; Packing: Tape and Reel; RoHS: TRUE; Mounting Technology: Surface Mount; ComponentLink1Description: Manufacturer URL; ComponentLink1URL: http://www.linear.com/; ComponentLink2Description: Datasheet; ComponentLink2URL: http://cds.linear.com/docs/en/datasheet/29212fa.pdf; ComponentLink3Description: Package Specification; ComponentLink3URL: http://cds.linear.com/docs/en/packaging/05081641_B_GN16.pdf
footprint LT-GN-16_N (SOP, 16-Leads, Body 5x4mm, Pitch 0.635mm, IPC Medium Density)
footprint LT-GN-16_L (SOP, 16-Leads, Body 5x4mm, Pitch 0.635mm, IPC High Density)
footprint LT-GN-16_M (SOP, 16-Leads, Body 5x4mm, Pitch 0.635mm, IPC Low Density)
pins: 1 V1 (in) "Supply Monitor Inputs. All four inputs must lie above the monitor threshold level (0.5V) and below the monitor overvoltage level (0.7V) for a turnon sequence to commence or continue. When any monitor input falls outside (See Datasheet)", 2 V2 (in) "Supply Monitor Inputs. All four inputs must lie above the monitor threshold level (0.5V) and below the monitor overvoltage level (0.7V) for a turnon sequence to commence or continue. When any monitor input falls outside (See Datasheet)", 3 V3 (in) "Supply Monitor Inputs. All four inputs must lie above the monitor threshold level (0.5V) and below the monitor overvoltage level (0.7V) for a turnon sequence to commence or continue. When any monitor input falls outside (See Datasheet)", 4 V4 (in) "Supply Monitor Inputs. All four inputs must lie above the monitor threshold level (0.5V) and below the monitor overvoltage level (0.7V) for a turnon sequence to commence or continue. When any monitor input falls outside (See Datasheet)", 5 S3 "Remote Sense Switch 3. Tie to GND if unused.", 6 D3 "Remote Sense Switch 3. Tie to GND if unused.", 7 S2 "Remote Sense Switch 2. Tie to GND if unused.", 8 D2 "Remote Sense Switch 2. Tie to GND if unused.", 9 S1 "Remote Sense Switch 1. Tie to GND if unused.", 10 D1 "Remote Sense Switch 1. Tie to GND if unused.", 11 GND (power) "Circuit Ground.", 12 PG (oc) "Power Good Output. A 4uA current source from the internal charge pump rail (VPUMP) pulls PG up after the turn-on sequence is complete. The output is pulled to ground before turn-on is complete, when any monitor is out of (See Datasheet)", 13 GATE (oc) "Gate Drive for External N-Channel FETs. A 10uA current source from the internal charge pump rail (VPUMP) ramps the gates of the external Nchannel MOSFETs forcing all supplies to track on. The resistor and capacitor network (See Datasheet)", 14 SENSE (in) "Circuit Breaker Sense Input. An external resistor between VCC and SENSE sets the electronic circuit breaker trip current. The breaker trips when the voltage across the resistor exceeds 50mV for 1us. To disable the circuit (See Datasheet)", 15 VCC (power) "Supply Voltage. The voltage at VCC is monitored through an internal resistive divider in a manner similar to the V1-V4 inputs. An undervoltage lockout circuit disables the part until the voltage at VCC is greater than 2.2V. (See Datasheet)", 16 TIMER (in) "Timing Delay Input. Connect a capacitor between this pin and ground to set a 600ms/mF delay at two points in the monitoring sequence. This sets the delay after all monitors are good, before the start of GATE ramping, and the (See Datasheet)"